# Altium footprint library Wombat.PcbLib: 2 footprints
Each footprint in its own frame and in the unit in brackets; x right, y up, seen from the top. Pads: shape width x height; smd on the part's side, far side on the other; paste and mask are expansions set on the pad; w line width, h text height; cw(c..) or ccw(c..) is an arc to the next point about the centre after c.
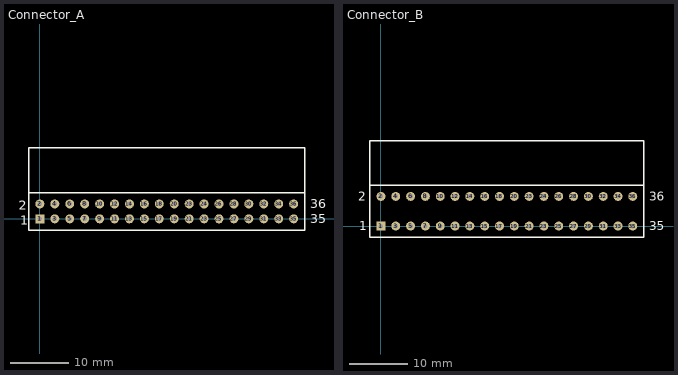
[diagram p0: the footprints below, top view; thin cyan lines are the x and y axes]

## Connector_A [mil] "Kookaberry Edge Connector - Type A"
pads (36):
  rect 60x60 hole 30: 1(0,0)
  round 60 hole 30: 2(0,100) 3(100,0) 4(100,100) 5(200,0) 6(200,100) 7(300,0) 8(300,100) 9(400,0) 10(400,100) 11(500,0) 12(500,100) 13(600,0) 14(600,100) 15(700,0) 16(700,100) 17(800,0) 18(800,100) 19(900,0) 20(900,100) 21(1000,0) 23(1000,100) 23(1100,0) 24(1100,100) 25(1200,0) 26(1200,100) 27(1300,0) 28(1300,100) 29(1400,0) 30(1400,100) 31(1500,0) 32(1500,100) 33(1600,0) 34(1600,100) 35(1700,0) 36(1700,100)
Top Overlay:
  lines w10: -75,175 -75,475 1775,475 1775,175 ; -75,175 1775,175 ; -75,175 -75,-75 1775,-75 1775,175
  text "1" at -130,-40 h60
  text "2" at -140,60 h60
  text "35" at 1810,-30 h60
  text "36" at 1810,70 h60

## Connector_B [mil] "Kookaberry Edge Connector - Type B"
pads (36):
  rect 60x60 hole 30: 1(0,0)
  round 60 hole 30: 2(0,200) 3(100,0) 4(100,200) 5(200,0) 6(200,200) 7(300,0) 8(300,200) 9(400,0) 10(400,200) 11(500,0) 12(500,200) 13(600,0) 14(600,200) 15(700,0) 16(700,200) 17(800,0) 18(800,200) 19(900,0) 20(900,200) 21(1000,0) 23(1000,200) 23(1100,0) 24(1100,200) 25(1200,0) 26(1200,200) 27(1300,0) 28(1300,200) 29(1400,0) 30(1400,200) 31(1500,0) 32(1500,200) 33(1600,0) 34(1600,200) 35(1700,0) 36(1700,200)
Top Overlay:
  lines w10: -75,275 -75,575 1775,575 1775,275 ; -75,275 1775,275 ; -75,275 -75,-75 1775,-75 1775,275
  text "1" at -145,-30 h60
  text "2" at -155,170 h60
  text "35" at 1810,-30 h60
  text "36" at 1810,170 h60